# EAGLE library part AD741 (library opamps)
AD741: Low-cost opamp (Analog Devices) ±15V, ±25mA, 800nA bias 7mV offset, 1MHz UGF, 22nV/rt(Hz) noise
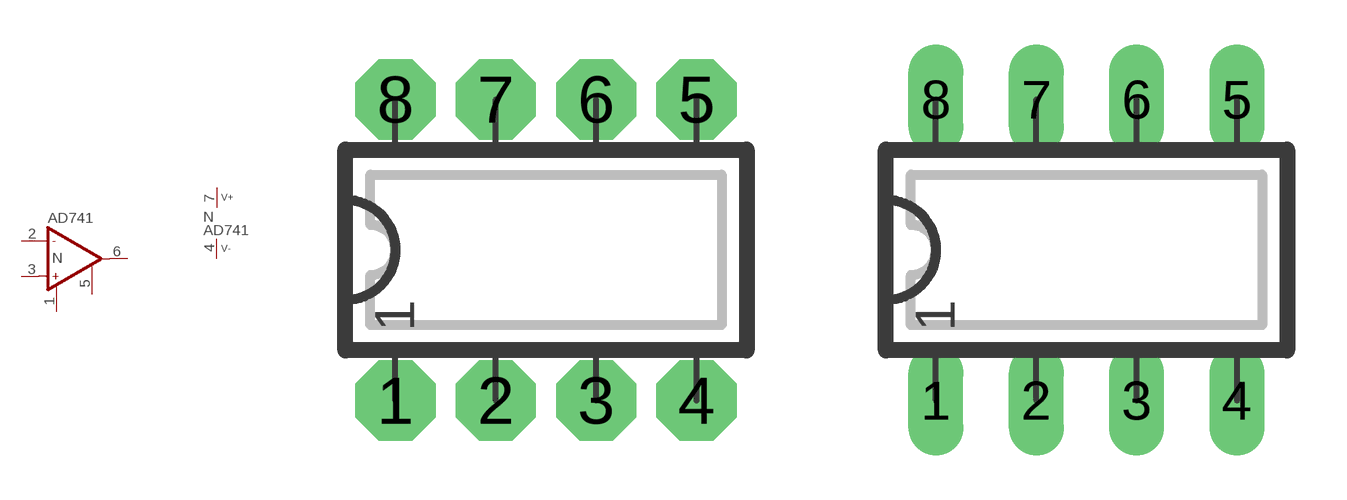
[diagram p37: symbol with the pads of DIP08N; footprints DIP08N, DIP08L]

Designator prefix N; gates A=OP_C P=V+-

## AD741N  [DIP08N]
1  A:OPC1
2  A:IN-  in
3  A:IN+  in
4  P:V-  pwr
5  A:OPC2
6  A:OUT  out
7  P:V+  pwr

## AD741L  [DIP08L]
Pads as for DIP08N

## AD741R  [DIP08R]
Pads as for DIP08N

## AD741T  [TO99]
Pads as for DIP08N

## AD741  [DIP08L]
Pads as for DIP08N

## Footprint DIP08N (pad centres in mm)
DIP-8 Standard IC package, 8 pins
drill 0.813 pad 2.032 octagon: 1 -3.81,-3.81; 2 -1.27,-3.81; 3 1.27,-3.81; 4 3.81,-3.81; 5 3.81,3.81; 6 1.27,3.81; 7 -1.27,3.81; 8 -3.81,3.81

## Footprint DIP08L (pad centres in mm)
DIP-8, long pads Standard IC package, 8 pins
drill 0.813 pad 1.397 long: 1 -3.81,-3.81; 2 -1.27,-3.81; 3 1.27,-3.81; 4 3.81,-3.81; 5 3.81,3.81; 6 1.27,3.81; 7 -1.27,3.81; 8 -3.81,3.81

## Footprint DIP08R (pad centres in mm)
DIP-8, reduced pads Standard IC package, 8 pins
drill 0.813 pad 1.397 square: 1 -3.81,-3.81; 2 -1.27,-3.81; 3 1.27,-3.81; 4 3.81,-3.81; 5 3.81,3.81; 6 1.27,3.81; 7 -1.27,3.81; 8 -3.81,3.81

## Footprint TO99 (pad centres in mm)
TO-99 Metal can package, 8 pins
drill 0.813 pad 1.397 octagon: 1 -1.778,1.778; 2 -2.54,0; 3 -1.778,-1.778; 4 0,-2.54; 5 1.778,-1.778; 6 2.54,0; 7 1.778,1.778; 8 0,2.54